# EAGLE library part SN74CBT3125 (library toyotune)
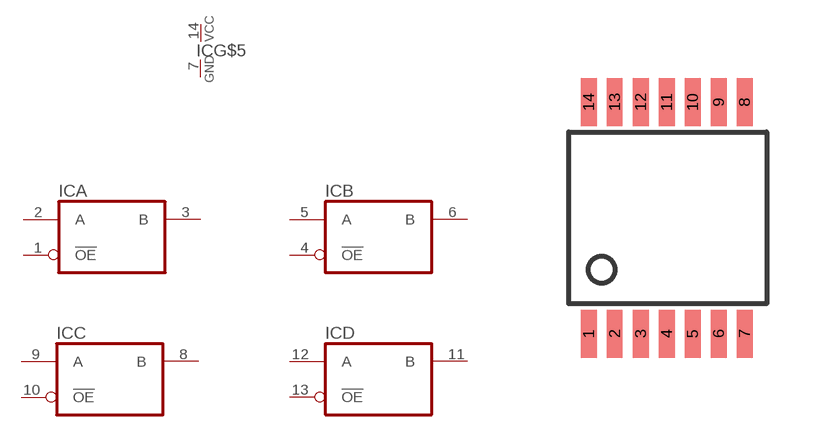
[diagram p24: symbol with the pads of PW_R-PDSO-G14; footprint PW_R-PDSO-G14]

Designator prefix IC; gates A=SN74CBT3125 B=SN74CBT3125 C=SN74CBT3125 D=SN74CBT3125 G$5=PWR

## SN74CBT3125  [PW_R-PDSO-G14]
1  A:!OE  in
2  A:A
3  A:B
4  B:!OE  in
5  B:A
6  B:B
7  G$5:GND  pwr
8  C:B
9  C:A
10  C:!OE  in
11  D:B
12  D:A
13  D:!OE  in
14  G$5:VCC  pwr

## Footprint PW_R-PDSO-G14 (pad centres in mm)
smd 0.4 x 1.2: 1 -1.875,-2.9; 2 -1.225,-2.9; 3 -0.575,-2.9; 4 0.075,-2.9; 5 0.725,-2.9; 6 1.375,-2.9; 7 2.025,-2.9; 8 2.025,2.9; 9 1.375,2.9; 10 0.725,2.9; 11 0.075,2.9; 12 -0.575,2.9; 13 -1.225,2.9; 14 -1.875,2.9